# EAGLE library part 67503-1020 (library Hexabitz)
0.8mm USB OTG Mini B SMT R/A Sol Tab Molex On-The-Go Series Right Angle SMT Version 2.0 Type B Mini USB Connector, Receptacle, 30 V ac/dc, 1A <https://componentsearchengine.com/Images/3/67503-1020.jpg> Source: Datasheet <http://docs-europe.electrocomponents.com/webdocs/13c4/0900766b813c46de.pdf>
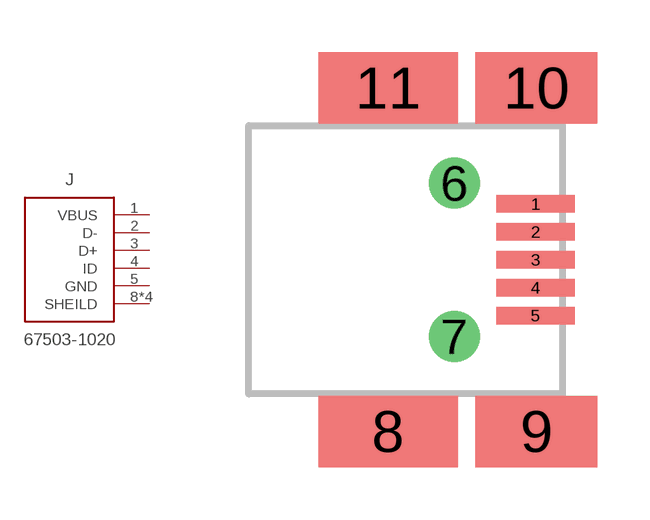
[diagram p25: symbol with the pads of 67503-1020; footprint 67503-1020]

Designator prefix J

## 67503-1020 (DESCRIPTION: USB - mini B USB 2.0 OTG Receptacle Connector 5 Position Surface Mount, Right Angle; MFN: Molex; MPN: 67503-1020; OCTOPART_URL: https://octopart.com/67503-1020-molex-766176?r=sp)  [67503-1020]
1  VBUS  pas
2  D-  pas
3  D+  pas
4  ID  pas
5  GND  pas
8  SHEILD  pas
9  SHEILD  pas
10  SHEILD  pas
11  SHEILD  pas

## Footprint 67503-1020 (pad centres in mm)
67503-1020
smd 2.25 x 0.5: 1 8.225,1.6; 2 8.225,0.8; 3 8.225,0; 4 8.225,-0.8; 5 8.225,-1.6
drill 0.95 pad 1.45: 6 5.9,2.2; 7 5.9,-2.2
smd 4 x 2.05: 8 4,-4.925; 11 4,4.925
smd 3.5 x 2.05: 9 8.25,-4.925; 10 8.25,4.925